# Altium integrated library Altium_XTAL.IntLib: 21 symbols
Pins are listed as number, name and electrical type; pins without a type are passive.

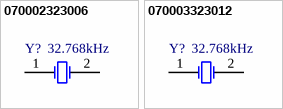
[diagram p0: symbols 070002323006 to 070003323012]

## 070002323006
designator Y?, comment 32.768kHz
WE-XTAL Watch Crystal, THT, WATCH, 32.768kHz, +/-20ppm; Manufacturer Part Number: 830014219B; Manufacturer: Wurth Elektronik; Load Capacitance: 6pF; Supllier 1 Name: Mouser; Supllier 1 SN: 710-830014219B; Supllier 2 Name: Digikey; Supllier 2 SN: 1923-830014219B-ND; ComponentLink2Description: Datasheet; ComponentLink2URL: https://katalog.we-online.com/pbs/datasheet/830014219B.pdf; Operating Temperature: -40 to +85degC; Size: WATCH; Frequency Stability: -; Frequency: 32.768kHz; Frequency Tolerance: +/-20ppm; Mounting Technology: THT; Supllier 1 URL: https://www.mouser.com/ProductDetail/Wurth-Elektronik/830014219B?qs=2WXlatMagcHtIp%252BQ4AMyQg%3D%3D; Supllier 2 URL: https://www.digikey.com/en/products/detail/w%C3%BCrth-elektronik/830014219b/13900227; Supplier 3 Name: Thegioiic; Supplier 3 SN: N/A; Supplier 3 URL: https://www.thegioiic.com/thach-anh-32-768khz-2x6mm
footprint WE-XTAL_WATCH_830014219B (Quartz Crystal, size WATCH, body diameter 2mm)
pins: 1 OSC1, 2 OSC2

## 070003323012
designator Y?, comment 32.768kHz
WE-XTAL Watch Crystal, THT, WATCH, 32.768kHz, +/-20ppm; Manufacturer Part Number: 830002995B; Manufacturer: Wurth Elektronik; Load Capacitance: 12.5pF; Supllier 1 Name: Mouser; Supllier 1 SN: 710-830002995B; Supllier 2 Name: Digikey; Supllier 2 SN: 732-830002995B-ND; ComponentLink2Description: Datasheet; ComponentLink2URL: https://katalog.we-online.com/pbs/datasheet/830002995B.pdf; Operating Temperature: -40 to +85degC; Size: WATCH; Frequency Stability: -; Frequency: 32.768kHz; Frequency Tolerance: +/-20ppm; Mounting Technology: THT; Supllier 1 URL: https://www.mouser.com/ProductDetail/Wurth-Elektronik/830002995B?qs=2WXlatMagcHCnw26vHVZcg%3D%3D; Supllier 2 URL: https://www.digikey.com/en/products/detail/w%C3%BCrth-elektronik/830002995b/13979343; Supplier 3 Name: Thegioiic; Supplier 3 SN: N/A; Supplier 3 URL: https://www.thegioiic.com/thach-anh-32-768khz-3x8mm
footprint WE-XTAL_WATCH_830002995B
pins: 1 OSC1, 2 OSC2


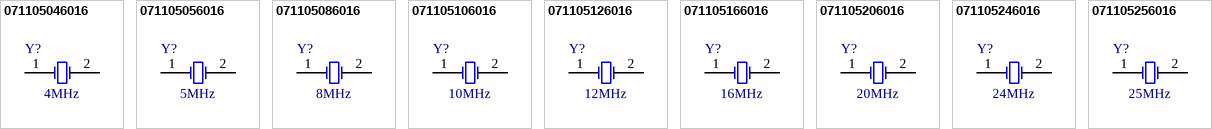
[diagram p1: symbols 071105046016 to 071105256016]

## 071105046016
designator Y?, comment 4MHz
WE-XTAL Quartz Crystal, SMT, HC49/4HSMX, 4MHz, +/-30ppm; Manufacturer Part Number: 830003071; Manufacturer: Wurth Elektronik; Frequency Stability: +/-50ppm; Load Capacitance: 16pF; Supllier 1 Name: Mouser; Supllier 1 SN: 710-830003071; Supllier 2 Name: Digikey; Supllier 2 SN: 732-830003071TR-ND; ComponentLink2Description: Datasheet; ComponentLink2URL: https://katalog.we-online.com/pbs/datasheet/830003071.pdf; Operating Temperature: -10 to +60degC; Size: HC49/4HSMX; Frequency: 4MHz; Frequency Tolerance: +/-30ppm; Mounting Technology: SMT; Supllier 1 URL: https://www.mouser.com/ProductDetail/Wurth-Elektronik/830003071?qs=2WXlatMagcG5ndMVgGcZZA%3D%3D; Supllier 2 URL: https://www.digikey.com/en/products/detail/w%C3%BCrth-elektronik/830003071/13979381; Supplier 3 Name: Thegioiic; Supplier 3 SN: N/A; Supplier 3 URL: https://www.thegioiic.com/thach-anh-4mhz-2-chan-smd-hc49-s
footprint WE-XTAL_HC49/4HSMX
pins: 1 OSC1, 2 OSC2

## 071105056016
designator Y?, comment 5MHz
WE-XTAL Quartz Crystal, SMT, HC49/4HSMX, 5MHz, +/-30ppm; Manufacturer Part Number: 830012312; Manufacturer: Wurth Elektronik; Frequency Stability: +/-50ppm; Load Capacitance: 30pF; Supllier 1 Name: Mouser; Supllier 1 SN: 710-830012312; Supllier 2 Name: Digikey; Supllier 2 SN: 732-830012312TR-ND; ComponentLink2Description: Datasheet; ComponentLink2URL: https://katalog.we-online.com/pbs/datasheet/830012312.pdf; Operating Temperature: -10 to +60degC; Size: HC49/4HSMX; Frequency: 5MHz; Frequency Tolerance: +/-30ppm; Mounting Technology: SMT; Supllier 1 URL: https://www.mouser.com/ProductDetail/Wurth-Elektronik/830012312?qs=2WXlatMagcEjEGDkUOcypQ%3D%3D; Supllier 2 URL: https://www.digikey.com/en/products/detail/w%C3%BCrth-elektronik/830012312/13900399; Supplier 3 Name: Thegioiic; Supplier 3 SN: N/A; Supplier 3 URL: N/A
footprint WE-XTAL_HC49/4HSMX
pins: 1 OSC1, 2 OSC2

## 071105086016
designator Y?, comment 8MHz
WE-XTAL Quartz Crystal, SMT, HC49/4HSMX, 8MHz, +/-30ppm; Manufacturer Part Number: 830003151; Manufacturer: Wurth Elektronik; Frequency Stability: +/-50ppm; Load Capacitance: 16pF; Supllier 1 Name: Mouser; Supllier 1 SN: 710-830003151; Supllier 2 Name: Digikey; Supllier 2 SN: 732-830003151TR-ND; ComponentLink2Description: Datasheet; ComponentLink2URL: https://katalog.we-online.com/pbs/datasheet/830003151.pdf; Operating Temperature: -10 to +60degC; Size: HC49/4HSMX; Frequency: 8MHz; Frequency Tolerance: +/-30ppm; Mounting Technology: SMT; Supllier 1 URL: https://www.mouser.com/ProductDetail/Wurth-Elektronik/830003151?qs=2WXlatMagcHisY7XHApyYg%3D%3D; Supllier 2 URL: https://www.digikey.com/en/products/detail/w%C3%BCrth-elektronik/830003151/13979296; Supplier 3 Name: Thegioiic; Supplier 3 SN: N/A; Supplier 3 URL: https://www.thegioiic.com/thach-anh-8mhz-2-chan-smd-hc49-s
footprint WE-XTAL_HC49/4HSMX
pins: 1 OSC1, 2 OSC2

## 071105106016
designator Y?, comment 10MHz
WE-XTAL Quartz Crystal, SMT, HC49/4HSMX, 10MHz, +/-30ppm; Manufacturer Part Number: 830003166; Manufacturer: Wurth Elektronik; Frequency Stability: +/-50ppm; Load Capacitance: 16pF; Supllier 1 Name: Mouser; Supllier 1 SN: 710-830003166; Supllier 2 Name: Digikey; Supllier 2 SN: 732-830003166TR-ND; ComponentLink2Description: Datasheet; ComponentLink2URL: https://katalog.we-online.com/pbs/datasheet/830003166.pdf; Operating Temperature: -10 to +60degC; Size: HC49/4HSMX; Frequency: 10MHz; Frequency Tolerance: +/-30ppm; Mounting Technology: SMT; Supllier 1 URL: https://www.mouser.com/ProductDetail/Wurth-Elektronik/830003166?qs=2WXlatMagcHFTM4Q3CDoWA%3D%3D; Supllier 2 URL: https://www.digikey.com/en/products/detail/w%C3%BCrth-elektronik/830003166/13900356; Supplier 3 Name: Thegioiic; Supplier 3 SN: N/A; Supplier 3 URL: https://www.thegioiic.com/thach-anh-10mhz-2-chan-smd-hc49-s
footprint WE-XTAL_HC49/4HSMX
pins: 1 OSC1, 2 OSC2

## 071105126016
designator Y?, comment 12MHz
WE-XTAL Quartz Crystal, SMT, HC49/4HSMX, 12MHz, +/-30ppm; Manufacturer Part Number: 830003210; Manufacturer: Wurth Elektronik; Frequency Stability: +/-50ppm; Load Capacitance: 16pF; Supllier 1 Name: Mouser; Supllier 1 SN: 710-830003210; Supllier 2 Name: Digikey; Supllier 2 SN: 732-830003210TR-ND; ComponentLink2Description: Datasheet; ComponentLink2URL: https://katalog.we-online.com/pbs/datasheet/830003210.pdf; Operating Temperature: -10 to +60degC; Size: HC49/4HSMX; Frequency: 12MHz; Frequency Tolerance: +/-30ppm; Mounting Technology: SMT; Supllier 1 URL: https://www.mouser.com/ProductDetail/Wurth-Elektronik/830003210?qs=2WXlatMagcEI70Ai6lh82Q%3D%3D; Supllier 2 URL: https://www.digikey.com/en/products/detail/w%C3%BCrth-elektronik/830003210/13900400; Supplier 3 Name: Thegioiic; Supplier 3 SN: N/A; Supplier 3 URL: https://www.thegioiic.com/thach-anh-12mhz-2-chan-smd-hc49-s
footprint WE-XTAL_HC49/4HSMX
pins: 1 OSC1, 2 OSC2

## 071105166016
designator Y?, comment 16MHz
WE-XTAL Quartz Crystal, SMT, HC49/4HSMX, 16MHz, +/-30ppm; Manufacturer Part Number: 830003237; Manufacturer: Wurth Elektronik; Frequency Stability: +/-50ppm; Load Capacitance: 16pF; Supllier 1 Name: Mouser; Supllier 1 SN: 710-830003237; Supllier 2 Name: Digikey; Supllier 2 SN: 732-830003237TR-ND; ComponentLink2Description: Datasheet; ComponentLink2URL: https://katalog.we-online.com/pbs/datasheet/830003237.pdf; Operating Temperature: -10 to +60degC; Size: HC49/4HSMX; Frequency: 16MHz; Frequency Tolerance: +/-30ppm; Mounting Technology: SMT; Supllier 1 URL: https://www.mouser.com/ProductDetail/Wurth-Elektronik/830003237?qs=2WXlatMagcFy7La1wROd1w%3D%3D; Supllier 2 URL: https://www.digikey.com/en/products/detail/w%C3%BCrth-elektronik/830003237/13979248; Supplier 3 Name: Thegioiic; Supplier 3 SN: N/A; Supplier 3 URL: https://www.thegioiic.com/thach-anh-16mhz-2-chan-smd-hc49-s
footprint WE-XTAL_HC49/4HSMX
pins: 1 OSC1, 2 OSC2

## 071105206016
designator Y?, comment 20MHz
WE-XTAL Quartz Crystal, SMT, HC49/4HSMX, 20MHz, +/-30ppm; Manufacturer Part Number: 830003181; Manufacturer: Wurth Elektronik; Frequency Stability: +/-50ppm; Load Capacitance: 16pF; Supllier 1 Name: Mouser; Supllier 1 SN: 710-830003181; Supllier 2 Name: Digikey; Supllier 2 SN: 732-830003181TR-ND; ComponentLink2Description: Datasheet; ComponentLink2URL: https://katalog.we-online.com/pbs/datasheet/830003181.pdf; Operating Temperature: -10 to +60degC; Size: HC49/4HSMX; Frequency: 20MHz; Frequency Tolerance: +/-30ppm; Mounting Technology: SMT; Supllier 1 URL: https://www.mouser.com/ProductDetail/Wurth-Elektronik/830003181?qs=2WXlatMagcFf1uIMoONFlg%3D%3D; Supllier 2 URL: https://www.digikey.com/en/products/detail/w%C3%BCrth-elektronik/830003181/13979259; Supplier 3 Name: Thegioiic; Supplier 3 SN: N/A; Supplier 3 URL: https://www.thegioiic.com/thach-anh-20mhz-2-chan-smd-hc49-s
footprint WE-XTAL_HC49/4HSMX
pins: 1 OSC1, 2 OSC2

## 071105246016
designator Y?, comment 24MHz
WE-XTAL Quartz Crystal, SMT, HC49/4HSMX, 24MHz, +/-30ppm; Manufacturer Part Number: 830012504; Manufacturer: Wurth Elektronik; Frequency Stability: +/-50ppm; Load Capacitance: 16pF; Supllier 1 Name: Mouser; Supllier 1 SN: 710-830012504; Supllier 2 Name: Digikey; Supllier 2 SN: 732-830012504TR-ND; ComponentLink2Description: Datasheet; ComponentLink2URL: https://katalog.we-online.com/pbs/datasheet/830012504.pdf; Operating Temperature: -10 to +60degC; Size: HC49/4HSMX; Frequency: 24MHz; Frequency Tolerance: +/-30ppm; Mounting Technology: SMT; Supllier 1 URL: https://www.mouser.com/ProductDetail/Wurth-Elektronik/830012504?qs=2WXlatMagcHGDjK9VoFxJA%3D%3D; Supllier 2 URL: https://www.digikey.com/en/products/detail/w%C3%BCrth-elektronik/830012504/13900310; Supplier 3 Name: Thegioiic; Supplier 3 SN: N/A; Supplier 3 URL: https://www.thegioiic.com/thach-anh-24mhz-2-chan-smd-hc49-s
footprint WE-XTAL_HC49/4HSMX
pins: 1 OSC1, 2 OSC2

## 071105256016
designator Y?, comment 25MHz
WE-XTAL Quartz Crystal, SMT, HC49/4HSMX, 25MHz, +/-30ppm; Manufacturer Part Number: 830010595; Manufacturer: Wurth Elektronik; Frequency Stability: +/-50ppm; Load Capacitance: 16pF; Supllier 1 Name: Mouser; Supllier 1 SN: 710-830010595; Supllier 2 Name: Digikey; Supllier 2 SN: 732-830010595TR-ND; ComponentLink2Description: Datasheet; ComponentLink2URL: https://katalog.we-online.com/pbs/datasheet/830010595.pdf; Operating Temperature: -10 to +60degC; Size: HC49/4HSMX; Frequency: 25MHz; Frequency Tolerance: +/-30ppm; Mounting Technology: SMT; Supllier 1 URL: https://www.mouser.com/ProductDetail/Wurth-Elektronik/830010595?qs=2WXlatMagcF3WD%2FXjgfV4g%3D%3D; Supllier 2 URL: https://www.digikey.com/en/products/detail/w%C3%BCrth-elektronik/830010595/13900288; Supplier 3 Name: Thegioiic; Supplier 3 SN: N/A; Supplier 3 URL: https://www.thegioiic.com/thach-anh-25mhz-2-chan-smd-hc49-s
footprint WE-XTAL_HC49/4HSMX
pins: 1 OSC1, 2 OSC2


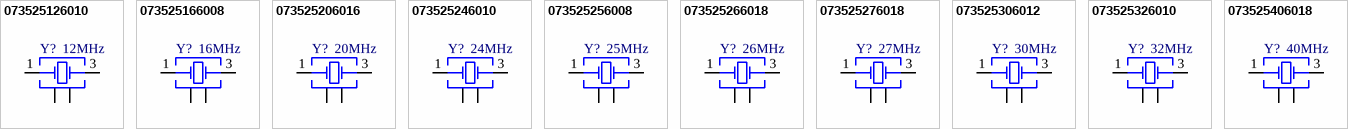
[diagram p2: symbols 073525126010 to 073525406018]

## 073525126010
designator Y?, comment 12MHz
WE-XTAL Quartz Crystal, SMT, CFPX-180, 12MHz, +/-30ppm; Manufacturer Part Number: NX3225SA-12MHZ-STD-CSR-6; Manufacturer: NDK; Frequency Stability: +/-25ppm; Load Capacitance: 8pF; Frequency Tolerance: +/-15ppm; Supllier 1 Name: Mouser; Supllier 1 SN: 344-NX3225SA12MCSR6; Supllier 2 Name: Digikey; Supllier 2 SN: 644-1180-2-ND; ComponentLink2Description: Datasheet; ComponentLink2URL: https://www.mouser.com/datasheet/2/905/c_NX3225SA_e-1317523.pdf; Operating Temperature: -20 to +70degC; Size: CFPX-104/5032; Frequency: 12MHz; Mounting Technology: SMT; Supllier 1 URL: https://www.mouser.com/ProductDetail/NDK/NX3225SA-12MHZ-STD-CSR-6?qs=55YtniHzbhCh3aOy4zgUJQ%3D%3D; Supllier 2 URL: https://www.digikey.com/en/products/detail/ndk-america-inc/NX3225SA-12MHZ-STD-CSR-6/3125639; Supplier 3 Name: Thegioiic; Supplier 3 SN: N/A; Supplier 3 URL: https://www.thegioiic.com/thach-anh-12mhz-5032-4-chan-smd
footprint WE-XTAL_CFPX-180
pins: 1 Crystal, 2 GND, 3 Crystal, 4 GND

## 073525166008
designator Y?, comment 16MHz
WE-XTAL Quartz Crystal, SMT, CFPX-180, 16MHz, +/-20ppm; Manufacturer Part Number: NX3225SA-16.000M-STD-CRS-2; Manufacturer: NDK; Frequency Stability: +/-50ppm; Load Capacitance: 8pF; Frequency Tolerance: +/-15ppm; Supllier 1 Name: Mouser; Supllier 1 SN: 344-NX3225SA16MCRS2; Supllier 2 Name: Digikey; Supllier 2 SN: 644-1129-2-ND; ComponentLink2Description: Datasheet; ComponentLink2URL: https://www.mouser.com/datasheet/2/905/c_NX3225SA_e-1317523.pdf; Operating Temperature: -10 to +60degC; Size: CFPX-104/5032; Frequency: 16MHz; Mounting Technology: SMT; Supllier 1 URL: https://www.mouser.com/ProductDetail/NDK/NX3225SA-16.000M-STD-CRS-2?qs=55YtniHzbhB2yRxaVPeqhg%3D%3D; Supllier 2 URL: https://www.digikey.com/en/products/detail/ndk-america-inc/NX3225SA-16-000M-STD-CRS-2/1788469; Supplier 3 Name: Thegioiic; Supplier 3 SN: N/A; Supplier 3 URL: https://www.thegioiic.com/thach-anh-16mhz-5032-4-chan-smd
footprint WE-XTAL_CFPX-180
pins: 1 Crystal, 2 GND, 3 Crystal, 4 GND

## 073525206016
designator Y?, comment 20MHz
WE-XTAL Quartz Crystal, SMT, CFPX-180, 20MHz, +/-50ppm; Manufacturer Part Number: NX3225SA-20.000000MHZ-B2; Manufacturer: NDK; Frequency Stability: +/-15ppm; Load Capacitance: 7.2 pF; Frequency Tolerance: +/-10ppm; Supllier 1 Name: Mouser; Supllier 1 SN: 344-NX3225SA20MHZB2; Supllier 2 Name: Digikey; Supllier 2 SN: 644-1098-2-ND; ComponentLink2Description: Datasheet; ComponentLink2URL: https://www.mouser.com/datasheet/2/905/ndk_08142018_NX3225SA-20.000000MHz-B2-1389018.pdf; Operating Temperature: -40 to +85degC; Size: CFPX-104/5032; Frequency: 20MHz; Mounting Technology: SMT; Supllier 1 URL: https://www.mouser.com/ProductDetail/NDK/NX3225SA-20.000000MHZ-B2?qs=w%2Fv1CP2dgqr91JjcOyduEA%3D%3D; Supllier 2 URL: https://www.digikey.com/en/products/detail/ndk-america-inc/NX3225SA-20-000000MHZ-B2/1468339; Supplier 3 Name: Thegioiic; Supplier 3 SN: N/A; Supplier 3 URL: https://www.thegioiic.com/thach-anh-20mhz-5032-4-chan-smd
footprint WE-XTAL_CFPX-180
pins: 1 Crystal, 2 GND, 3 Crystal, 4 GND

## 073525246010
designator Y?, comment 24MHz
WE-XTAL Quartz Crystal, SMT, CFPX-180, 24MHz, +/-10ppm; Manufacturer Part Number: NX3225SA-24.000MHZ-STD-CSR-1; Manufacturer: NDK; Frequency Stability: +/-15ppm; Load Capacitance: 8pF; Supllier 1 Name: Mouser; Supllier 1 SN: 344-NX3225SA24MCSR1; Supllier 2 Name: Digikey; ComponentLink2Description: Datasheet; ComponentLink2URL: https://www.mouser.com/datasheet/2/905/ndk_04232018_NX3225SA-STD-CSR-1-1324926.pdf; Operating Temperature: -40 to +85degC; Size: CFPX-104/5032; Frequency: 24MHz; Frequency Tolerance: +/-15ppm; Mounting Technology: SMT; Supllier 1 URL: https://www.mouser.com/ProductDetail/NDK/NX3225SA-24.000MHZ-STD-CSR-1?qs=55YtniHzbhAmpjBlg6S4sA%3D%3D; Supllier 2 SN: N/A; Supllier 2 URL: N/A; Supplier 3 Name: Thegioiic; Supplier 3 SN: N/A; Supplier 3 URL: https://www.thegioiic.com/thach-anh-24mhz-5032-4-chan-smd
footprint WE-XTAL_CFPX-180
pins: 1 Crystal, 2 GND, 3 Crystal, 4 GND

## 073525256008
designator Y?, comment 25MHz
WE-XTAL Quartz Crystal, SMT, CFPX-180, 25MHz, +/-10ppm; Manufacturer Part Number: NX3225GA-25.000M-STD-CRG-1; Manufacturer: NDK; Frequency Stability: +/-30ppm; Load Capacitance: 8pF; Frequency Tolerance: +/-20ppm; Supllier 1 Name: Mouser; Supllier 1 SN: 344-NX3225GA25MSTRG1; Supllier 2 Name: Digikey; ComponentLink2Description: Datasheet; ComponentLink2URL: https://www.mouser.com/datasheet/2/905/ndk_08142018_NX3225GA-27.000M-STD-CRG-1-1389019.pdf; Operating Temperature: -10 to +60degC; Size: CFPX-104/5032; Frequency: 25MHz; Mounting Technology: SMT; Supllier 1 URL: https://www.mouser.com/ProductDetail/NDK/NX3225GA-25.000M-STD-CRG-1?qs=w%2Fv1CP2dgqrtPHjsihYWzQ%3D%3D; Supllier 2 SN: N/A; Supllier 2 URL: N/A; Supplier 3 Name: Thegioiic; Supplier 3 SN: N/A; Supplier 3 URL: https://www.thegioiic.com/thach-anh-25mhz-5032-4-chan-smd
footprint WE-XTAL_CFPX-180
pins: 1 Crystal, 2 GND, 3 Crystal, 4 GND

## 073525266018
designator Y?, comment 26MHz
WE-XTAL Quartz Crystal, SMT, CFPX-180, 26MHz, +/-20ppm; Manufacturer Part Number: NX3225SA-26.000000MHZ-G2; Manufacturer: NDK; Frequency Stability: +/-11ppm; Load Capacitance: 10 pF; Frequency Tolerance: +/-10ppm; Supllier 1 Name: Mouser; Supllier 1 SN: 344-NX3225SA26MHZG2; Supllier 2 Name: Digikey; Supllier 2 SN: 644-1109-2-ND; ComponentLink2Description: Datasheet; ComponentLink2URL: https://www.mouser.com/datasheet/2/905/ndk_08142018_NX3225SA-26.000000MHz-G2-1388987.pdf; Operating Temperature: -40 to +85degC; Size: CFPX-180/3525; Frequency: 26MHz; Mounting Technology: SMT; Supllier 1 URL: https://www.mouser.com/ProductDetail/NDK/NX3225SA-26.000000MHZ-G2?qs=w%2Fv1CP2dgqpn8gBA99%252BHVQ%3D%3D; Supllier 2 URL: https://www.digikey.com/en/products/detail/ndk-america-inc/nx3225sa-26-000000mhz-g2/1468350; Supplier 3 Name: Thegioiic; Supplier 3 SN: N/A; Supplier 3 URL: https://www.thegioiic.com/thach-anh-26mhz-3225-4-chan-smd
footprint WE-XTAL_CFPX-180
pins: 1 Crystal, 2 GND, 3 Crystal, 4 GND

## 073525276018
designator Y?, comment 27MHz
WE-XTAL Quartz Crystal, SMT, CFPX-180, 27MHz, +/-20ppm; Manufacturer Part Number: NX3225GA-27M-STD-CRG-2; Manufacturer: NDK; Frequency Stability: +/-30ppm; Load Capacitance: 8pF; Supllier 1 Name: Mouser; Supllier 1 SN: 344-NX3225GA27MSTRG2; Supllier 2 Name: Digikey; Supllier 2 SN: 644-1232-2-ND; ComponentLink2Description: Datasheet; ComponentLink2URL: https://www.mouser.com/datasheet/2/905/c_NX3225GA_e-2580733.pdf; Operating Temperature: -40 to +85degC; Size: CFPX-180/3525; Frequency: 27MHz; Frequency Tolerance: +/-20ppm; Mounting Technology: SMT; Supllier 1 URL: https://www.mouser.com/ProductDetail/NDK/NX3225GA-27M-STD-CRG-2?qs=w%2Fv1CP2dgqrhBJm0JvTWiA%3D%3D; Supllier 2 URL: https://www.digikey.com/en/products/detail/ndk-america-inc/nx3225ga-27m-std-crg-2/4914446; Supplier 3 Name: Thegioiic; Supplier 3 SN: N/A; Supplier 3 URL: N/A
footprint WE-XTAL_CFPX-180
pins: 1 Crystal, 2 GND, 3 Crystal, 4 GND

## 073525306012
designator Y?, comment 30MHz
WE-XTAL Quartz Crystal, SMT, CFPX-180, 30MHz, +/-10ppm; Manufacturer Part Number: NX3225SA-30.000M-STD-CSR-3; Manufacturer: NDK; Frequency Stability: +/-15ppm; Load Capacitance: 8pF; Supllier 1 Name: Mouser; Supllier 1 SN: 344-NX3225SA30MSTSR3; Supllier 2 Name: Digikey; ComponentLink2Description: Datasheet; ComponentLink2URL: https://www.mouser.com/datasheet/2/905/ndk_04232018_NX3225SA_STD-CSR-3-1324920.pdf; Operating Temperature: -10 to +60degC; Size: CFPX-104/5032; Frequency: 30MHz; Frequency Tolerance: +/-15ppm; Mounting Technology: SMT; Supllier 1 URL: https://www.mouser.com/ProductDetail/NDK/NX3225SA-30.000M-STD-CSR-3?qs=w%2Fv1CP2dgqpeKuTpBQU%2FIw%3D%3D; Supllier 2 SN: N/A; Supllier 2 URL: N/A; Supplier 3 Name: Thegioiic; Supplier 3 SN: N/A; Supplier 3 URL: https://www.thegioiic.com/thach-anh-30mhz-5032-4-chan-smd
footprint WE-XTAL_CFPX-180
pins: 1 Crystal, 2 GND, 3 Crystal, 4 GND

## 073525326010
designator Y?, comment 32MHz
WE-XTAL Quartz Crystal, SMT, CFPX-180, 32MHz, +/-30ppm; Manufacturer Part Number: NX3225SA-32MHZ-EXS00A-CS02368; Manufacturer: NDK; Frequency Stability: +/-16ppm; Load Capacitance: 9pF; Frequency Tolerance: +/-10ppm; Supllier 1 Name: Mouser; Supllier 1 SN: 344-NX3225SA32MHZEXS; Supllier 2 Name: Digikey; Supllier 2 SN: 644-1208-2-ND; ComponentLink2Description: Datasheet; ComponentLink2URL: https://www.mouser.com/datasheet/2/905/ndk_04232018_NX3225SA-32MHZ-EXS00A-CS02368-1324924.pdf; Operating Temperature: -20 to +70degC; Size: CFPX-180/3525; Frequency: 32MHz; Mounting Technology: SMT; Supllier 1 URL: https://www.mouser.com/ProductDetail/NDK/NX3225SA-32MHZ-EXS00A-CS02368?qs=55YtniHzbhCu90OOsHDzwg%3D%3D; Supllier 2 URL: https://www.digikey.com/en/products/detail/ndk-america-inc/nx3225sa-32mhz-exs00a-cs02368/3946316; Supplier 3 Name: Thegioiic; Supplier 3 SN: N/A; Supplier 3 URL: N/A
footprint WE-XTAL_CFPX-180
pins: 1 Crystal, 2 GND, 3 Crystal, 4 GND

## 073525406018
designator Y?, comment 40MHz
WE-XTAL Quartz Crystal, SMT, CFPX-180, 40MHz, +/-20ppm; Manufacturer Part Number: NX3225SA-40M-EXS00A-CS03880; Manufacturer: NDK; Frequency Stability: +/-17ppm; Load Capacitance: 8pF; Frequency Tolerance: +/-10ppm; Supllier 1 Name: Mouser; Supllier 1 SN: 344-NX3225SA40S03880; Supllier 2 Name: Digikey; Supllier 2 SN: 644-1249-2-ND; ComponentLink2Description: Datasheet; ComponentLink2URL: https://www.mouser.com/datasheet/2/905/ndk_08142018_NX3225SA-40M-EXS00A-CS03880-1389054.pdf; Operating Temperature: -10 to +60degC; Size: CFPX-104/5032; Frequency: 40MHz; Mounting Technology: SMT; Supllier 1 URL: https://www.mouser.com/ProductDetail/NDK/NX3225SA-40M-EXS00A-CS03880?qs=w%2Fv1CP2dgqo9kGSMUdcrAw%3D%3D; Supllier 2 URL: https://www.digikey.com/en/products/detail/ndk-america-inc/NX3225SA-40M-EXS00A-CS03880/5015625; Supplier 3 Name: Thegioiic; Supplier 3 SN: N/A; Supplier 3 URL: https://www.thegioiic.com/thach-anh-40mhz-5032-4-chan-smd
footprint WE-XTAL_CFPX-180
pins: 1 Crystal, 2 GND, 3 Crystal, 4 GND